# EAGLE library part ADS7824U (library burr-brown)
12-Bit 40 kSPS 4-channel ADC
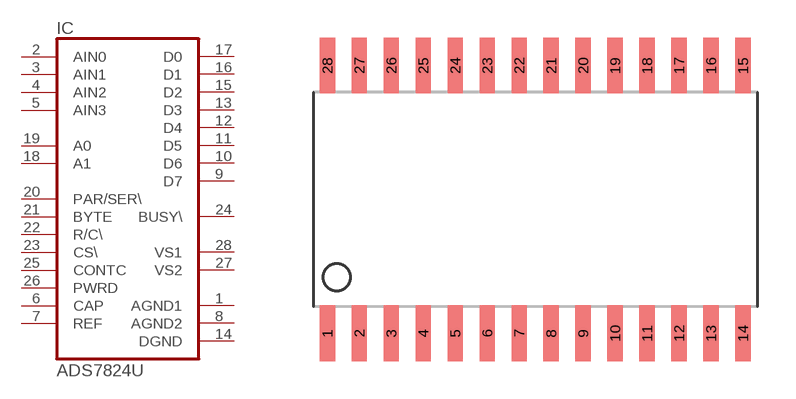
[diagram p32: symbol with the pads of SO28-3; footprint SO28-3]

Designator prefix IC

## ADS7824U  [SO28-3]
1  AGND1  pwr
2  AIN0  in
3  AIN1  in
4  AIN2  in
5  AIN3  in
6  CAP  in
7  REF
8  AGND2  pwr
9  D7  out
10  D6  out
11  D5  out
12  D4
13  D3  out
14  DGND  pwr
15  D2
16  D1  out
17  D0
18  A1
19  A0
20  PAR/SER\  in
21  BYTE  in
22  R/C\  in
23  CS\  in
24  BUSY\  out
25  CONTC  in
26  PWRD  in
27  VS2  pwr
28  VS1  pwr

## Footprint SO28-3 (pad centres in mm)
smd 0.61 x 2.21: 1 -8.255,-5.315; 2 -6.985,-5.315; 3 -5.715,-5.315; 4 -4.445,-5.315; 5 -3.175,-5.315; 6 -1.905,-5.315; 7 -0.635,-5.315; 8 0.635,-5.315; 9 1.905,-5.315; 10 3.175,-5.315; 11 4.445,-5.315; 12 5.715,-5.315; 13 6.985,-5.315; 14 8.255,-5.315; 15 8.255,5.315; 16 6.985,5.315; 17 5.715,5.315; 18 4.445,5.315; 19 3.175,5.315; 20 1.905,5.315; 21 0.635,5.315; 22 -0.635,5.315; 23 -1.905,5.315; 24 -3.175,5.315; 25 -4.445,5.315; 26 -5.715,5.315; 27 -6.985,5.315; 28 -8.255,5.315